# Altium footprint library PCB.PcbLib: 34 footprints (part 3 of 3)
Each footprint in its own frame and in the unit in brackets; x right, y up, seen from the top. Pads: shape width x height; smd on the part's side, far side on the other; paste and mask are expansions set on the pad; w line width, h text height; cw(c..) or ccw(c..) is an arc to the next point about the centre after c.
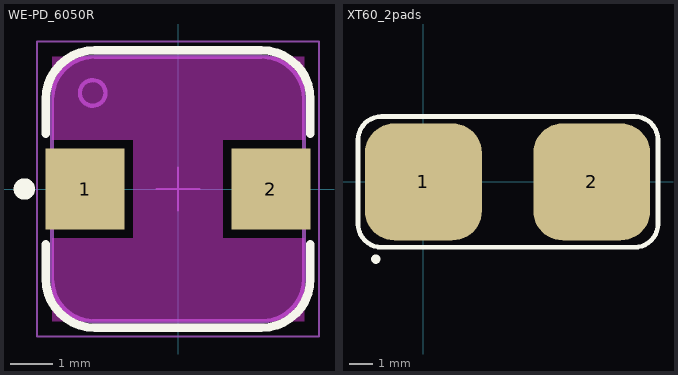
[diagram p2: the footprints below, top view; thin cyan lines are the x and y axes]

## WE-PD_6050R [mm] "SMT Shielded Power Inductor, 2-leads, body 5.9x6.2mm"
height 5.1
pads (2):
  rect 1.85x1.9 smd: 1(-2.175,0) 2(2.175,0)
Top Layer keep-out:
  region: -2.95,-3.1 -2.95,-1.15 -1.05,-1.15 -1.05,1.15 -2.95,1.15 -2.95,3.1 2.95,3.1 2.95,1.15 1.05,1.15 1.05,-1.15 2.95,-1.15 2.95,-3.1
Top Overlay:
  circle w0.25: c-3.6,0 r0.125
  lines w0.2: -3.1,-1.3 -3.1,-2.1 ccw(c-1.95,-2.1) -1.95,-3.25 1.95,-3.25 ccw(c1.95,-2.1) 3.1,-2.1 3.1,-1.3 ; -3.1,1.3 -3.1,2.1 cw(c-1.95,2.1) -1.95,3.25 1.95,3.25 cw(c1.95,2.1) 3.1,2.1 3.1,1.3
Top 3D Body:
  circle w0.1: c-2,2.25 r0.3
  lines w0.1: -2,-3.1 2,-3.1 ; -1.95,-3.1 cw(c-1.95,-2.1) -2.95,-2.1 -2.95,2.1 cw(c-1.95,2.1) -1.95,3.1 1.95,3.1 cw(c1.95,2.1) 2.95,2.1 2.95,-2.1 cw(c1.95,-2.1) 1.95,-3.1
Top Courtyard:
  lines w0.05: -0.5,0 0.5,0 ; 0,-0.5 0,0.5 ; -3.3,-3.45 -3.3,3.45 3.3,3.45 3.3,-3.45 -3.3,-3.45
Top Designator:
  text ".Designator" at -7.498,-0.5 h1.5
Top Component Outline:
  circle w0.1: c-2,2.25 r0.3
  lines w0.1: -2,-3.1 2,-3.1 ; -1.95,-3.1 cw(c-1.95,-2.1) -2.95,-2.1 -2.95,2.1 cw(c-1.95,2.1) -1.95,3.1 1.95,3.1 cw(c1.95,2.1) 2.95,2.1 2.95,-2.1 cw(c1.95,-2.1) 1.95,-3.1
3D body "WE-PD_6050_p-base_7447786xx.stp": height 4.9, standoff 0, extent -2.95,-3.1 2.95,3.1

## XT60_2pads [mm]
pads (2):
  rrect50% 5x5 smd: 1(0,0) 2(7.2,0)
Top Overlay:
  circle w0.2: c-2.032,-3.302 r0.1
  lines w0.2: -2.794,-1.794 ccw(c-1.794,-1.794) -1.794,-2.794 9.033,-2.794 ccw(c9.033,-1.794) 10.033,-1.794 10.033,1.794 ccw(c9.033,1.794) 9.033,2.794 -1.794,2.794 ccw(c-1.794,1.794) -2.794,1.794 -2.794,-1.794
3D body "AMASS_XT60-M_1x02_P7.2mm_Vertical.step": height 6.25, standoff -1.85, extent -4.311,-18.921 11.589,1.579